# EAGLE library part ESP32 (library chiptron_petus_cz)
ESP32 component, QFN48 made by Petus (2016) http://petus.cz
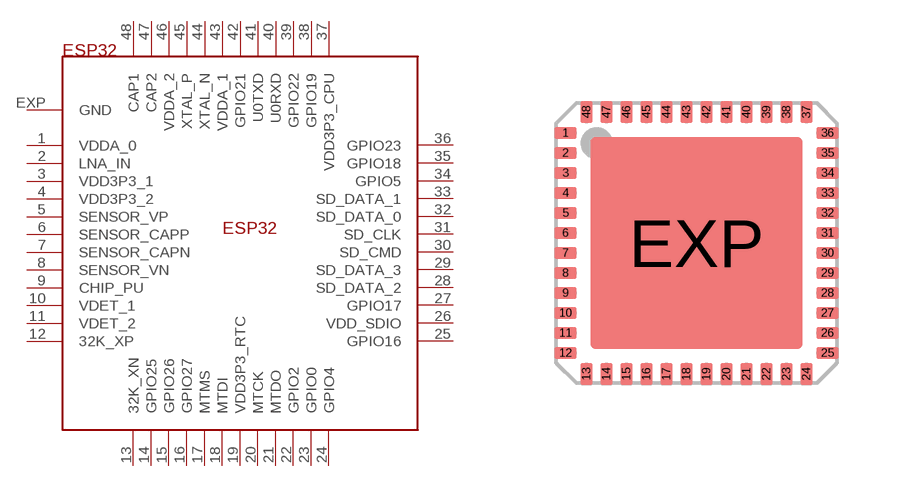
[diagram p11: symbol with the pads of QFN48; footprint QFN48]

Designator prefix -

## ESP32  [QFN48]
1  VDDA_0  pwr
2  LNA_IN
3  VDD3P3_1  pwr
4  VDD3P3_2  pwr
5  SENSOR_VP
6  SENSOR_CAPP
7  SENSOR_CAPN
8  SENSOR_VN
9  CHIP_PU
10  VDET_1
11  VDET_2
12  32K_XP
13  32K_XN
14  GPIO25
15  GPIO26
16  GPIO27
17  MTMS
18  MTDI
19  VDD3P3_RTC  pwr
20  MTCK
21  MTDO
22  GPIO2
23  GPIO0
24  GPIO4
25  GPIO16
26  VDD_SDIO  pwr
27  GPIO17
28  SD_DATA_2
29  SD_DATA_3
30  SD_CMD
31  SD_CLK
32  SD_DATA_0
33  SD_DATA_1
34  GPIO5
35  GPIO18
36  GPIO23
37  VDD3P3_CPU  pwr
38  GPIO19
39  GPIO22
40  U0RXD
41  U0TXD
42  GPIO21
43  VDDA_1  pwr
44  XTAL_N
45  XTAL_P
46  VDDA_2  pwr
47  CAP2
48  CAP1
EXP  GND  pwr

## Footprint QFN48 (pad centres in mm)
smd 0.55 x 0.3: 1 -3.275,2.75; 2 -3.275,2.25; 3 -3.275,1.75; 4 -3.275,1.25; 5 -3.275,0.75; 6 -3.275,0.25; 7 -3.275,-0.25; 8 -3.275,-0.75; 9 -3.275,-1.25; 10 -3.275,-1.75; 11 -3.275,-2.25; 12 -3.275,-2.75; 25 3.275,-2.75; 26 3.275,-2.25; 27 3.275,-1.75; 28 3.275,-1.25; 29 3.275,-0.75; 30 3.275,-0.25; 31 3.275,0.25; 32 3.275,0.75; 33 3.275,1.25; 34 3.275,1.75; 35 3.275,2.25; 36 3.275,2.75
smd 0.3 x 0.55: 13 -2.75,-3.275; 14 -2.25,-3.275; 15 -1.75,-3.275; 16 -1.25,-3.275; 17 -0.75,-3.275; 18 -0.25,-3.275; 19 0.25,-3.275; 20 0.75,-3.275; 21 1.25,-3.275; 22 1.75,-3.275; 23 2.25,-3.275; 24 2.75,-3.275; 37 2.75,3.275; 38 2.25,3.275; 39 1.75,3.275; 40 1.25,3.275; 41 0.75,3.275; 42 0.25,3.275; 43 -0.25,3.275; 44 -0.75,3.275; 45 -1.25,3.275; 46 -1.75,3.275; 47 -2.25,3.275; 48 -2.75,3.275
smd 5.309 x 5.309: EXP 0,0